# Altium schematic symbol library STM_mcu.SchLib: 13 symbols
Pins are listed as number, name and electrical type; pins without a type are passive.

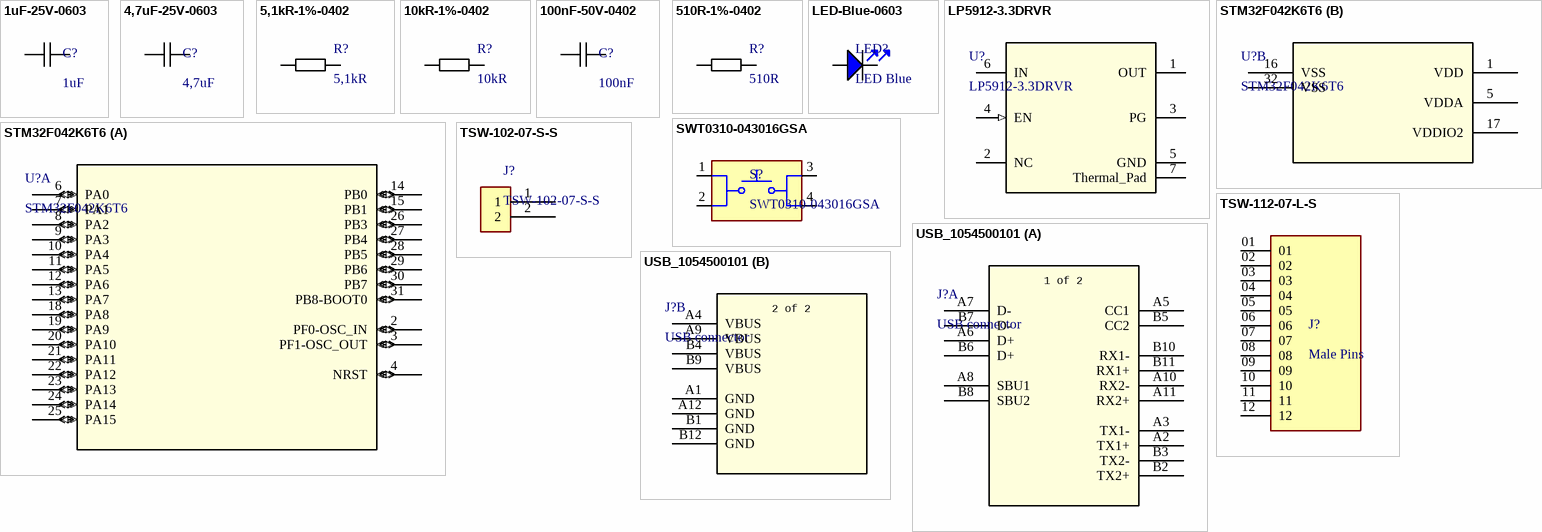
[diagram p0: symbols 1uF-25V-0603 to USB_1054500101]

## 1uF-25V-0603
designator C?, comment 1uF
1 µF ±10% 25V Ceramic Capacitor X7R 0603 (1608 Metric); Part Number: CGA3E1X7R1E105K080AC
footprint CAPACITOR_0603
pins: 1, 2

## 4,7uF-25V-0603
designator C?, comment 4,7uF
4.7 µF ±10% 25V Ceramic Capacitor X5R 0603 (1608 Metric); Part Number: C1608X5R1E475K080AC
footprint CAPACITOR_0603
pins: 1, 2

## 5,1kR-1%-0402
designator R?, comment 5,1kR
5.1 kOhms ±1% 0.063W, 1/16W Chip Resistor 0402 (1005 Metric) Thick Film; Part Number: CRCW04025K10FKEDC
footprint RESISTOR_0402
pins: 1 R1, 2 R2

## 10kR-1%-0402
designator R?, comment 10kR
10 kOhms ±1% 0.063W, 1/16W Chip Resistor 0402 (1005 Metric) Thick Film; Part Number: CRCW040210K0FKEDC
footprint RESISTOR_0402
pins: 1 R1, 2 R2

## 100nF-50V-0402
designator C?, comment 100nF
0.1 µF ±20% 50V Ceramic Capacitor X5R 0402 (1005 Metric); Part Number: CGA2B3X5R1H104M050BB
footprint CAPACITOR_0402
pins: 1, 2

## 510R-1%-0402
designator R?, comment 510R
510 Ohms ±1% 0.063W, 1/16W Chip Resistor 0402 (1005 Metric) Automotive AEC-Q200 Thick Film; Part Number: CRCW0402510RFKED
footprint RESISTOR_0402
pins: 1 R1, 2 R2

## LED-Blue-0603
designator LED?, comment LED Blue
Blue 470nm LED Indication - Discrete 3.2V 0603 (1608 Metric); Part Number: 150060BS75000
footprint LED_0603
pins: 1 C, 2 A

## LP5912-3.3DRVR
designator U?
500-mA&nbsp;low-noise&nbsp;low-IQ&nbsp;low-dropout voltage regulator with reverse current protect 6-WSON -40 to 125; Part number: LP5912-3.3DRVR
footprint LP5912
pins: 1 OUT (power), 2 NC, 3 PG (oc), 4 EN (in), 5 GND (power), 6 IN (power), 7 Thermal_Pad (power)

## STM32F042K6T6
designator U?
Mainstream Arm Cortex-M0 USB line MCU with 32 Kbytes of Flash memory, 48 MHz CPU, USB, CAN and CEC functions; Part number: STM32F042K6T6
footprint Quad32-STM32F042K6T6
part A pins: 2 PF0-OSC_IN (io), 3 PF1-OSC_OUT (io), 4 NRST (io), 6 PA0 (io), 7 PA1 (io), 8 PA2 (io), 9 PA3 (io), 10 PA4 (io), 11 PA5 (io), 12 PA6 (io), 13 PA7 (io), 14 PB0 (io), 15 PB1 (io), 18 PA8 (io), 19 PA9 (io), 20 PA10 (io), 21 PA11 (io), 22 PA12 (io), 23 PA13 (io), 24 PA14 (io), 25 PA15 (io), 26 PB3 (io), 27 PB4 (io), 28 PB5 (io), 29 PB6 (io), 30 PB7 (io), 31 PB8-BOOT0 (io)
part B pins: 1 VDD (power), 5 VDDA (power), 16 VSS (power), 17 VDDIO2 (power), 32 VSS (power)

## SWT0310-043016GSA
designator S?
6mm x 6mm Gull Wing Tactile Switch; Part number: SWT0310-043016GSA
footprint SWT0310 - switch
pins: 1, 2, 3, 4

## TSW-102-07-S-S
designator J?
Connector Header Through Hole 2 position 0.100" (2.54mm); Part number: TSW-102-07-S-S
footprint SAMTEC_TSW-102-07-L-S
pins: 1, 2

## TSW-112-07-L-S
designator J?, comment Male Pins
Connector Header Through Hole 12 position 0.100" (2.54mm); Part number: TSW-112-07-L-S
footprint SAMTEC_TSW-112-07-L-S
pins: 01, 02, 03, 04, 05, 06, 07, 08, 09, 10, 11, 12

## USB_1054500101
designator J?, comment USB connector
Universal Serial Bus (USB) Shielded I/O Receptacle, Type C, Right-Angle, Top Mount, Surface Mount, 0.80mm Solder Tabs, Gold (Au) Flash over 0.76Âµm Palladium Nickel Plating; Part number: 1054500101
footprint USB_C_CONN_1054500101
part A pins: A2 TX1+, A3 TX1-, A5 CC1, A6 D+, A7 D-, A8 SBU1, A10 RX2-, A11 RX2+, B2 TX2+, B3 TX2-, B5 CC2, B6 D+, B7 D-, B8 SBU2, B10 RX1-, B11 RX1+
part B pins: A1 GND (power), A4 VBUS (power), A9 VBUS (power), A12 GND (power), B1 GND (power), B4 VBUS (power), B9 VBUS (power), B12 GND (power)
part A text: 1 of 2
part B text: 2 of 2